# Altium footprint library CMOY Pro Lib.PcbLib: 4 footprints
Each footprint in its own frame and in the unit in brackets; x right, y up, seen from the top. Pads: shape width x height; smd on the part's side, far side on the other; paste and mask are expansions set on the pad; w line width, h text height; cw(c..) or ccw(c..) is an arc to the next point about the centre after c.
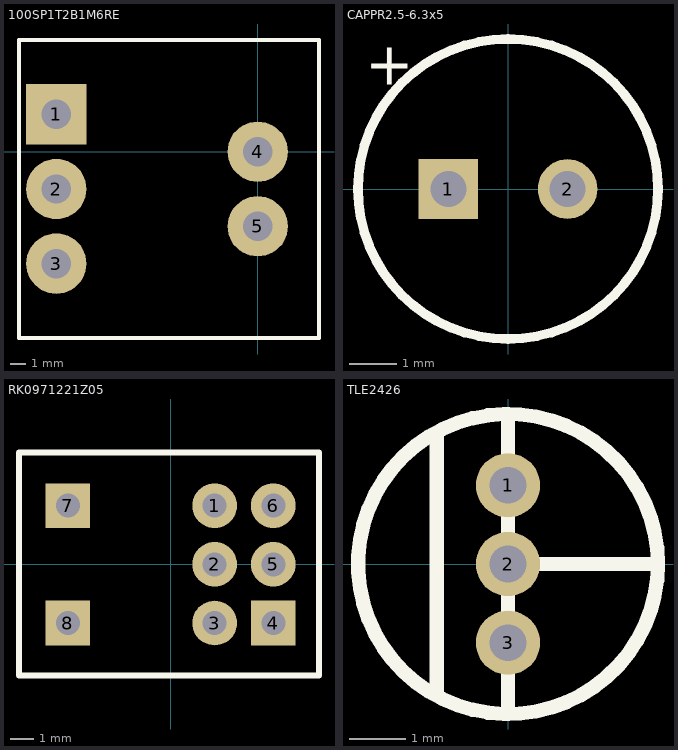
[diagram p0: the footprints below, top view; thin cyan lines are the x and y axes]

## 100SP1T2B1M6RE [mil] "SPDT Right Angle PCB Mount Toggle Switch"
pads (5):
  rect 150x150 hole 73: 1(-500,93)
  round 150 hole 73: 2(-500,-92.04) 3(-500,-277.08) 4(0,0.48) 5(0,-184.56)
Top Overlay:
  lines w10: -592.52,-462.12 -500,-462.12 152,-462.12 152,278.04 -500,278.04 -591.96,278.04 -592.52,277.48 -592.52,93 -592.52,-462.12
Mechanical 1:
  lines w10: -592.52,-462.12 -592.52,93 -592.52,277.48 -591.96,278.04 -500,278.04 152,278.04 152,-462.12 -500,-462.12 -592.52,-462.12

## CAPPR2.5-6.3x5 [mm] "Capacitor, Electrolytic, Radial; Body 6.3 x 5 mm (Dia.xH typ); Pin Spacing 2.5 mm (typ)"
height 6
pads (2):
  rect 1.25x1.25 hole 0.75: 1(-1.25,0)
  round 1.25 hole 0.75: 2(1.25,0)
Top Overlay:
  circle w0.2: c0,0 r3.15
  text "+" at -2.997,2.184 h0.89

## RK0971221Z05 [mm] "Doubke Ganged 10k Pot"
pads (8):
  round 1.905 hole 1.016: 1(1.875,2.5) 2(1.875,0) 3(1.875,-2.5) 5(4.375,0) 6(4.375,2.5)
  rect 1.905x1.905 hole 1.016: 4(4.375,-2.5) 7(-4.375,2.5) 8(-4.375,-2.5)
Top Overlay:
  lines w0.254: -6.456,-4.735 -6.456,4.764 6.32,4.764 6.32,-4.735 -6.456,-4.735
3D body: height 11.35, standoff -3.5, extent -6.456,-4.735 24.344,4.765

## TLE2426 [mil] "TLE2426 Rail Divider LP Package"
pads (3):
  round 45 hole 25.59: 1(0,55.12) 2(0,0) 3(0,-55.12)
Top Overlay:
  circle w10: c0,0 r105.12
  lines w10: -50,-92 -50,92 ; 0,-105.12 0,0 ; 0,105.12 0,0 ; 105.12,0 0,0